# Altium footprint library environmentalAccelerometer.PcbLib: 2 footprints
Each footprint in its own frame and in the unit in brackets; x right, y up, seen from the top. Pads: shape width x height; smd on the part's side, far side on the other; paste and mask are expansions set on the pad; w line width, h text height; cw(c..) or ccw(c..) is an arc to the next point about the centre after c.
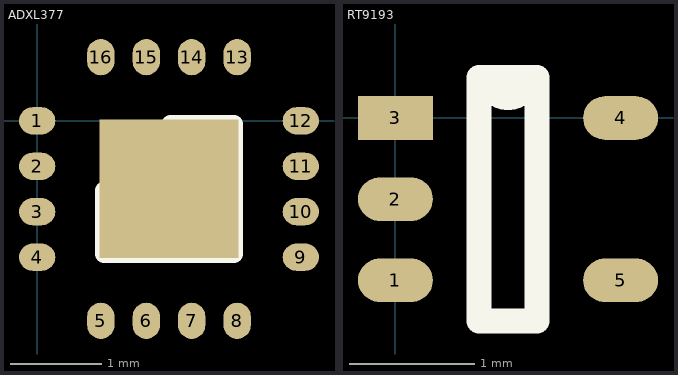
[diagram p0: the footprints below, top view; thin cyan lines are the x and y axes]

## ADXL377 [mm]
pads (17):
  oval 0.4x0.3 smd: 1(0,0) 2(0,-0.5) 3(0,-1) 4(0,-1.5) 9(2.9,-1.5) 10(2.9,-1) 11(2.9,-0.5) 12(2.9,0)
  oval 0.3x0.4 smd: 5(0.7,-2.2) 6(1.2,-2.2) 7(1.7,-2.2) 8(2.2,-2.2) 13(2.2,0.7) 14(1.7,0.7) 15(1.2,0.7) 16(0.7,0.7)
  rect 1.524x1.524 smd: ""(1.45,-0.749)
Top Overlay:
  lines w0.2: 0.735,-1.465 0.735,-0.77 1.47,-0.035 2.165,-0.035 2.165,-1.465 0.735,-1.465

## RT9193 [mm]
pads (5):
  oval 0.6x0.35 smd: 1(0,-1.3) 2(0,-0.65) 4(1.803,0) 5(1.803,-1.3)
  rect 0.6x0.35 smd: 3(0,0)
Top Overlay:
  lines w0.2: 0.668,-1.625 1.135,-1.625 1.135,0.325 0.739,0.325 ccw(c0.901,0.325) 1.064,0.325 0.668,0.325 0.668,-1.625